# EAGLE library part M24M02-DR (library Schuyler)
M24M02-DR 2 Megabit EEPROM.
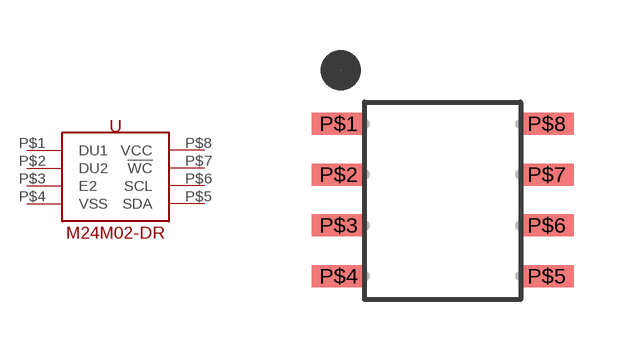
[diagram p29: symbol with the pads of SO8N; footprint SO8N]

Designator prefix U

## M24M02-DR-1 (MANPARTNUMBER: M24M02-DRMN6TP; MANUFACTURER: STMicroelectronics; PARTNUMBER: 497-11600-1-ND; SUPPLIER: Digikey)  [SO8N]
P$1  DU1  nc
P$2  DU2  nc
P$3  E2  in
P$4  VSS  pwr
P$5  SDA
P$6  SCL  in
P$7  !WC  in
P$8  VCC  pwr

## Footprint SO8N (pad centres in mm)
SO8N Package
smd 1.35 x 0.55: P$1 -2.6,1.905; P$2 -2.6,0.635; P$3 -2.6,-0.635; P$4 -2.6,-1.905; P$5 2.6,-1.905; P$6 2.6,-0.635; P$7 2.6,0.635; P$8 2.6,1.905